# EAGLE library part 2908-05 (library con-sd-card)
3M 2908 Series microSD
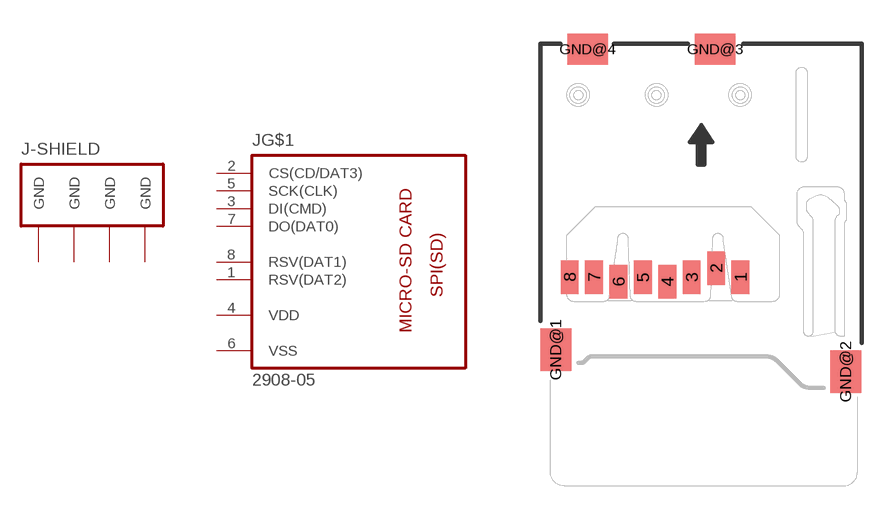
[diagram p1: symbol with the pads of 2908-05; footprint 2908-05]

Designator prefix J; gates G$1=SD-MICRO -SHIELD=GND_SHEILD4

## 2908-05  [2908-05]
1  G$1:RSV(DAT2)
2  G$1:CS(CD/DAT3)
3  G$1:DI(CMD)
4  G$1:VDD  pwr
5  G$1:SCK(CLK)
6  G$1:VSS  pwr
7  G$1:DO(DAT0)
8  G$1:RSV(DAT1)
GND@1  -SHIELD:GND  pas
GND@2  -SHIELD:GND  pas
GND@3  -SHIELD:GND  pas
GND@4  -SHIELD:GND  pas

## Footprint 2908-05 (pad centres in mm)
2900 Series microSD 3M
smd 0.8 x 1.5: 1 1.761,3.847; 2 0.669,4.253; 3 -0.423,3.847; 4 -1.515,3.644; 5 -2.607,3.847; 6 -3.7,3.644; 7 -4.792,3.847; 8 -5.884,3.847
smd 1.397 x 1.905: GND@1 -6.5,0.6; GND@2 6.473,-0.389
smd 1.803 x 1.397: GND@3 0.631,14.059; GND@4 -5.084,14.059